# Altium footprint library PcbLib1.PcbLib: 17 footprints (part 2 of 2)
Each footprint in its own frame and in the unit in brackets; x right, y up, seen from the top. Pads: shape width x height; smd on the part's side, far side on the other; paste and mask are expansions set on the pad; w line width, h text height; cw(c..) or ccw(c..) is an arc to the next point about the centre after c.
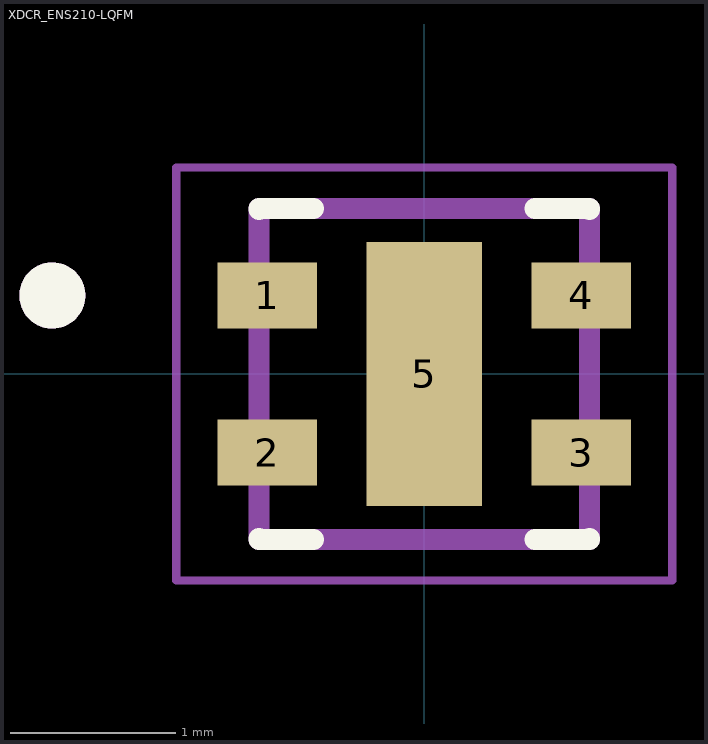
[diagram p1: the footprint, top view; thin cyan lines are the x and y axes]

## XDCR_ENS210-LQFM [mm]
height 0.8
pads (5):
  rect 0.6x0.4 smd paste-0.05 mask+0.05: 1(-0.95,0.475) 2(-0.95,-0.475) 3(0.95,-0.475) 4(0.95,0.475)
  rect 0.7x1.6 smd paste-2 mask+0.05: 5(0,0)
Top Overlay:
  circle w0.2: c-2.25,0.475 r0.1
  lines w0.127: -1,-0.995 -1,-1 -0.67,-1 ; -1,0.995 -1,1 -0.67,1 ; 0.67,-1 1,-1 1,-0.995 ; 0.67,1 1,1 1,0.995
Top Paste:
  region: 0.175,-0.4 -0.175,-0.4 -0.175,0.4 0.175,0.4
Mechanical 13:
  circle w0.2: c-2.25,0.475 r0.1
  lines w0.127: -1,-1 -1,1 1,1 1,-1 -1,-1
Mechanical 15:
  lines w0.05: -1.5,-1.25 1.5,-1.25 1.5,1.25 -1.5,1.25 -1.5,-1.25
3D body "step_temp.STEP": height 0.8, standoff 0, extent -1,-1 1,1